# EAGLE library part CH376S (library Signetics)
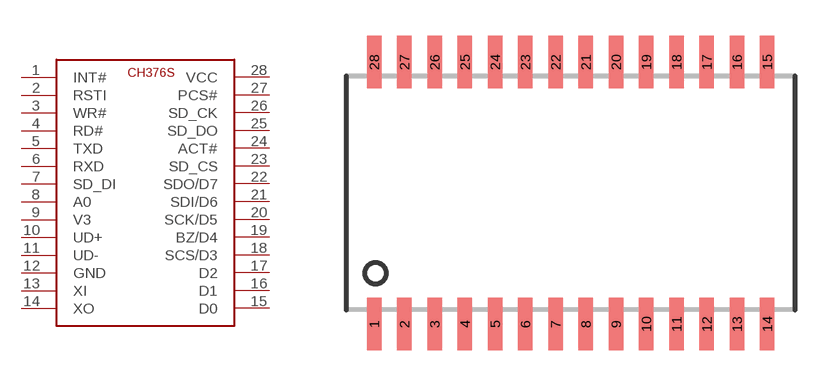
[diagram p15: symbol with the pads of SOP28; footprint SOP28]

Designator prefix -

## CH376S  [SOP28]
1  INT#
2  RSTI
3  WR#
4  RD#
5  TXD
6  RXD
7  SD_DI
8  A0
9  V3
10  UD+
11  UD-
12  GND
13  XI
14  XO
15  D0
16  D1
17  D2
18  SCS/D3
19  BZ/D4
20  SCK/D5
21  SDI/D6
22  SDO/D7
23  SD_CS
24  ACT#
25  SD_DO
26  SD_CK
27  PCS#
28  VCC

## Footprint SOP28 (pad centres in mm)
smd 0.6 x 2.2: 1 -6.985,-5.5; 2 -5.715,-5.5; 3 -4.445,-5.5; 4 -3.175,-5.5; 5 -1.905,-5.5; 6 -0.635,-5.5; 7 0.635,-5.5; 8 1.905,-5.5; 9 3.175,-5.5; 10 4.445,-5.5; 11 5.715,-5.5; 12 6.985,-5.5; 13 8.255,-5.5; 14 9.525,-5.5; 15 9.525,5.5; 16 8.255,5.5; 17 6.985,5.5; 18 5.715,5.5; 19 4.445,5.5; 20 3.175,5.5; 21 1.905,5.5; 22 0.635,5.5; 23 -0.635,5.5; 24 -1.905,5.5; 25 -3.175,5.5; 26 -4.445,5.5; 27 -5.715,5.5; 28 -6.985,5.5